# Altium footprint library WE-WPCC.PcbLib: 65 footprints (part 1 of 5)
Each footprint in its own frame and in the unit in brackets; x right, y up, seen from the top. Pads: shape width x height; smd on the part's side, far side on the other; paste and mask are expansions set on the pad; w line width, h text height; cw(c..) or ccw(c..) is an arc to the next point about the centre after c.
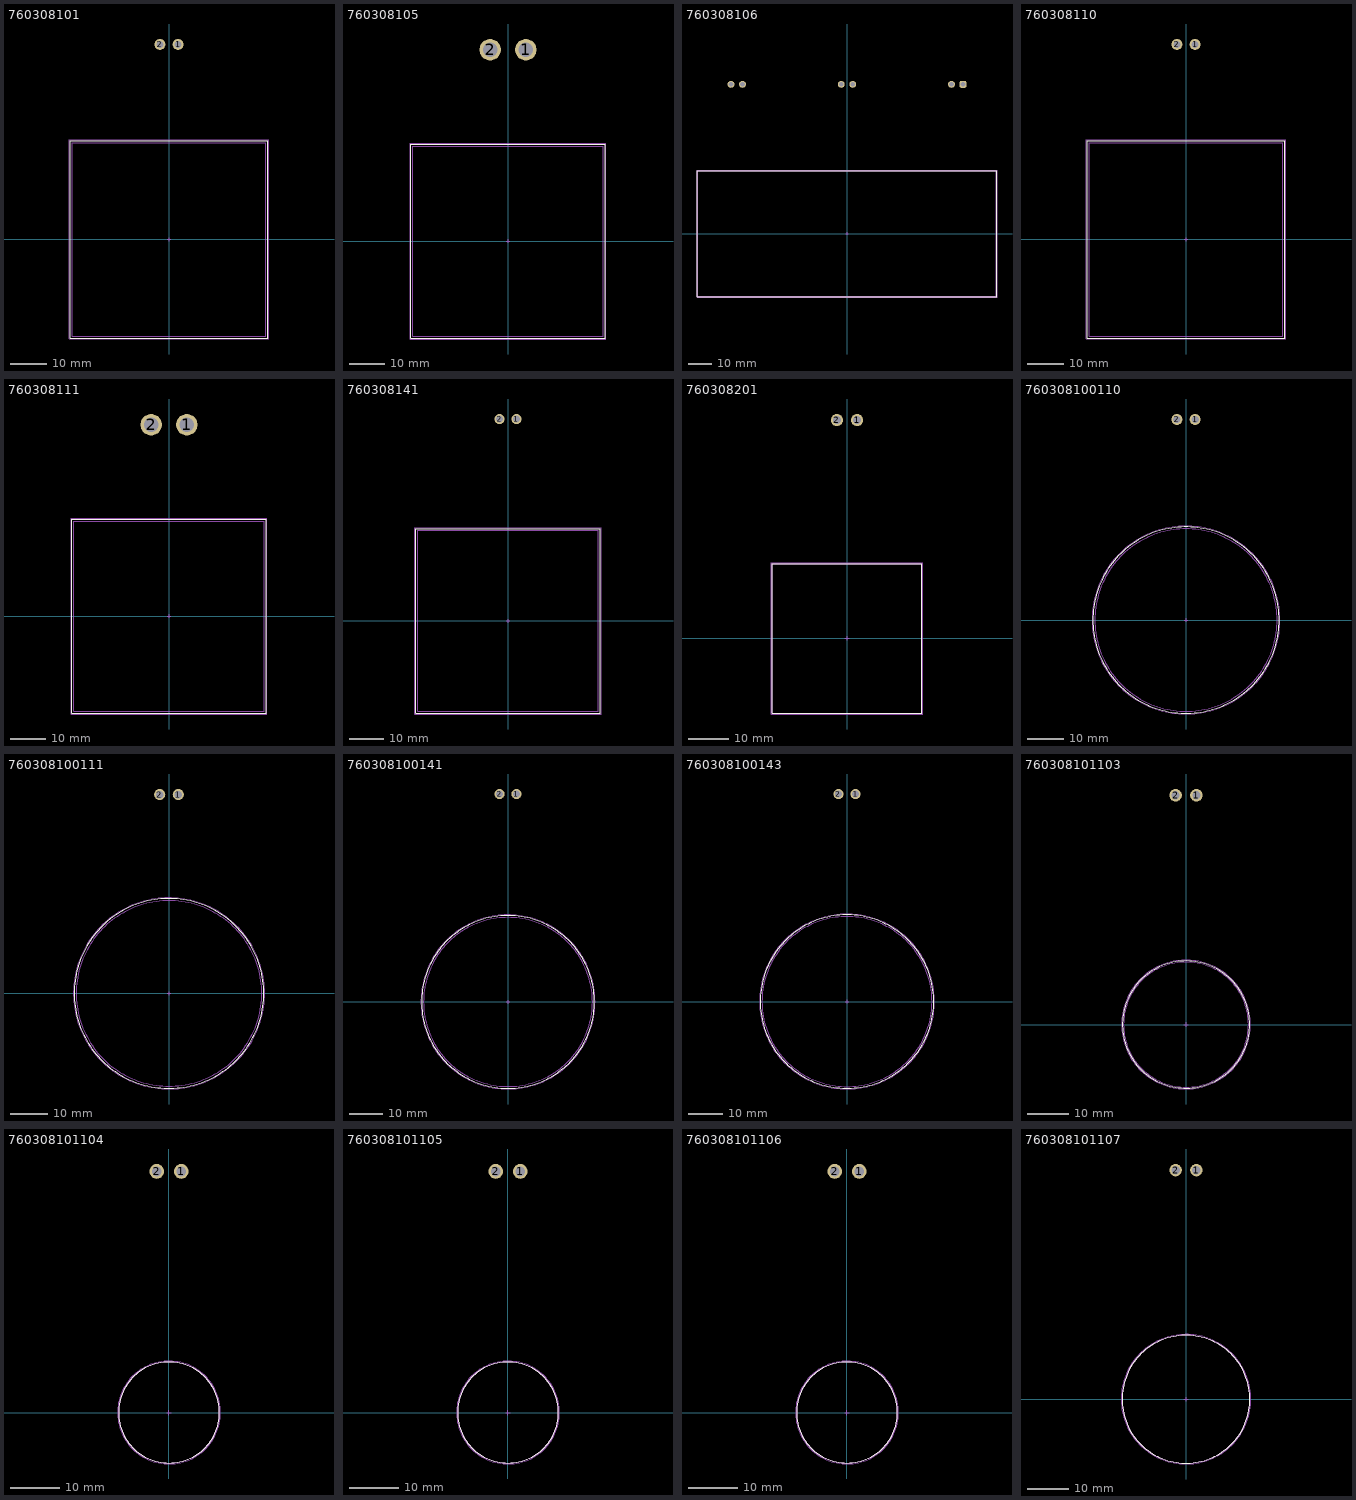
[diagram p0: the footprints below, top view; thin cyan lines are the x and y axes]

## 760308101 [mm] "Wireless Power Transfer Transmitter Coil, body 54.4x54.4mm"
height 6
pads (2):
  round 3 hole 2: 1(2.5,53.65) 2(-2.5,53.65)
Top Overlay:
  lines w0.2: -27.2,-27.2 27.2,-27.2 27.2,27.2 -27.2,27.2 -27.2,-27.2
Assembly Notes:
  text "Pitch 5mm min." at -6,50 h1.22
Top Component Outline:
  lines w0.1: -26.65,-26.65 26.65,-26.65 26.65,26.65 -26.65,26.65 -26.65,-26.65
Top 3D Body:
  lines w0.1: -26.65,-26.65 -26.65,26.65 26.65,26.65 26.65,-26.65 -26.65,-26.65
Top Courtyard:
  lines w0.05: -27.4,-27.4 27.4,-27.4 27.4,27.4 -27.4,27.4 -27.4,-27.4
Top Component Center:
  lines w0.05: -0.5,0 0.5,0 ; 0,-0.5 0,0.5
Top Designator (Mech19):
  text ".Designator" at -7.498,-0.5 h1.5
3D body "760308101_A1.stp": height 5.3, standoff 0.1, extent -26.65,-26.65 26.65,63.65

## 760308105 [mm] "Wireless Power Transfer Transmitter Coil, body 54.4x54.4mm"
height 6
pads (2):
  round 6 hole 4: 1(5,53.65) 2(-5,53.65)
Top Overlay:
  lines w0.2: -27.2,-27.2 -27.2,27.2 27.2,27.2 27.2,-27.2 -27.2,-27.2
Assembly Notes:
  text "Pitch 5mm min." at -6,48 h1.22
Top Component Outline:
  lines w0.1: -26.65,-26.65 -26.65,26.65 26.65,26.65 26.65,-26.65 -26.65,-26.65
Top 3D Body:
  lines w0.1: -26.65,-26.65 26.65,-26.65 26.65,26.65 -26.65,26.65 -26.65,-26.65
Top Courtyard:
  lines w0.05: -27.4,-27.4 -27.4,27.4 27.4,27.4 27.4,-27.4 -27.4,-27.4
Top Component Center:
  lines w0.05: -0.5,0 0.5,0 ; 0,-0.5 0,0.5
Top Designator (Mech19):
  text ".Designator" at -7.498,-0.5 h1.5
3D body "760308105_A5.stp": height 5.05, standoff 0.05, extent -26.65,-26.65 26.65,63.65

## 760308106 [mm] "Wireless Power Array, body 130.2x54.9mm"
height 8
pads (6):
  rrect50% 3x3 hole 2: 1(50.5,65)
  round 3 hole 2: 2(45.5,65) 3(2.5,65) 4(-2.5,65) 5(-45.5,65) 6(-50.5,65)
Top Overlay:
  lines w0.2: -65.1,-27.45 -65.1,27.45 65.1,27.45 65.1,-27.45 -65.1,-27.45
Assembly Notes:
  text "Pitch 5mm min." at 42,62 h1.22
  text "Pitch 5mm min." at -6,62 h1.22
  text "Pitch 5mm min." at -54,62 h1.22
Top Component Outline:
  lines w0.1: -65,-27.35 -65,27.35 65,27.35 65,-27.35 -65,-27.35
Top 3D Body:
  lines w0.1: -65,-27.35 65,-27.35 65,27.35 -65,27.35 -65,-27.35
Top Courtyard:
  lines w0.05: -65.3,-27.65 -65.3,27.65 65.3,27.65 65.3,-27.65 -65.3,-27.65
Top Component Center:
  lines w0.05: -0.5,0 0.5,0 ; 0,-0.5 0,0.5
Top Designator (Mech19):
  text ".Designator" at -7.498,-0.5 h1.5
3D body "760308106 (rev1).stp": height 4.77, standoff 0.05, extent -65,-27.4 65,77.6

## 760308110 [mm] "Wireless Power Transfer Transmitter Coil, body 54.4x54.4mm"
height 6
pads (2):
  round 3 hole 2: 1(2.5,53.65) 2(-2.5,53.65)
Top Overlay:
  lines w0.2: -27.2,-27.2 27.2,-27.2 27.2,27.2 -27.2,27.2 -27.2,-27.2
Assembly Notes:
  text "Pitch 5mm min." at -7,50 h1.22
Top Component Outline:
  lines w0.1: -26.65,-26.65 26.65,-26.65 26.65,26.65 -26.65,26.65 -26.65,-26.65
Top 3D Body:
  lines w0.1: -26.65,-26.65 -26.65,26.65 26.65,26.65 26.65,-26.65 -26.65,-26.65
Top Courtyard:
  lines w0.05: -27.4,-27.4 27.4,-27.4 27.4,27.4 -27.4,27.4 -27.4,-27.4
Top Component Center:
  lines w0.05: -0.5,0 0.5,0 ; 0,-0.5 0,0.5
Top Designator (Mech19):
  text ".Designator" at -7.498,-0.5 h1.5
3D body "760308110 (rev1).stp": height 5.25, standoff 0.05, extent -26.65,-26.65 26.65,63.65

## 760308111 [mm] "Wireless Power Transfer Transmitter Coil, body 54.4x54.4mm"
height 6
pads (2):
  round 6 hole 4: 1(5,53.65) 2(-5,53.65)
Top Overlay:
  lines w0.2: -27.2,-27.2 27.2,-27.2 27.2,27.2 -27.2,27.2 -27.2,-27.2
Assembly Notes:
  text "Pitch 5mm min." at -7,48 h1.22
Top Component Outline:
  lines w0.1: -26.65,-26.65 26.65,-26.65 26.65,26.65 -26.65,26.65 -26.65,-26.65
Top 3D Body:
  lines w0.1: -26.65,-26.65 -26.65,26.65 26.65,26.65 26.65,-26.65 -26.65,-26.65
Top Courtyard:
  lines w0.05: -27.4,-27.4 -27.4,27.4 27.4,27.4 27.4,-27.4 -27.4,-27.4
Top Component Center:
  lines w0.05: -0.5,0 0.5,0 ; 0,-0.5 0,0.5
Top Designator (Mech19):
  text ".Designator" at -7.498,-0.5 h1.5
3D body "760308111 (rev1).stp": height 4.82, standoff 0.05, extent -26.65,-26.65 26.65,63.65

## 760308141 [mm] "Wireless Power Transfer Transmitter Coil, body 54.4x54.4mm"
height 6.5
pads (2):
  round 3 hole 2: 1(2.5,59.45) 2(-2.5,59.45)
Top Overlay:
  lines w0.2: -27.2,-27.2 -27.2,27.2 27.2,27.2 27.2,-27.2 -27.2,-27.2
Assembly Notes:
  text "Pitch 5mm min." at -6,56 h1.22
Top Component Outline:
  lines w0.1: -26.65,-26.65 -26.65,26.65 26.65,26.65 26.65,-26.65 -26.65,-26.65
Top 3D Body:
  lines w0.1: -26.65,-26.65 26.65,-26.65 26.65,26.65 -26.65,26.65 -26.65,-26.65
Top Courtyard:
  lines w0.05: -27.4,-27.4 27.4,-27.4 27.4,27.4 -27.4,27.4 -27.4,-27.4
Top Component Center:
  lines w0.05: -0.5,0 0.5,0 ; 0,-0.5 0,0.5
Top Designator (Mech19):
  text ".Designator" at -7.498,-0.5 h1.5
3D body "760308141_MPA1.stp": height 5.25, standoff 0.05, extent -26.65,-26.65 26.65,69.5

## 760308201 [mm] "Wireless Power Transfer Receiver Coil,  body 37x37mm"
height 1.8
pads (2):
  round 3 hole 2: 1(2.5,54) 2(-2.5,54)
Top Overlay:
  lines w0.2: -18.5,-18.5 -18.5,18.5 18.5,18.5 18.5,-18.5 -18.5,-18.5
Assembly Notes:
  text "Pitch 5mm min." at -6,51 h1.22
Top Component Outline:
  lines w0.1: -18.5,-18.5 -18.5,18.5 18.5,18.5 18.5,-18.5 -18.5,-18.5
Top 3D Body:
  lines w0.1: -18.5,-18.5 18.5,-18.5 18.5,18.5 -18.5,18.5 -18.5,-18.5
Top Courtyard:
  lines w0.05: -18.7,-18.7 18.7,-18.7 18.7,18.7 -18.7,18.7 -18.7,-18.7
Top Component Center:
  lines w0.05: -0.5,0 0.5,0 ; 0,-0.5 0,0.5
Top Designator (Mech19):
  text ".Designator" at -7.498,-0.5 h1.5
3D body "760308201 (rev1).stp": height 2.43, standoff 0.05, extent -17.5,-17.5 17.5,63

## 760308100110 [mm] "Wireless Power Transfer Transmitter Coil, Dia 50mm"
height 6
pads (2):
  round 3 hole 2: 1(2.5,55) 2(-2.5,55)
Top Overlay:
  circle w0.2: c0,0 r25.55
Assembly Notes:
  text "Pitch 5mm min." at -6,51 h1.22
Top Component Outline:
  circle w0.1: c0,0 r25
Top 3D Body:
  circle w0.1: c0,0 r25
Top Courtyard:
  circle w0.05: c0,0 r25.75
Top Component Center:
  lines w0.05: -0.5,0 0.5,0 ; 0,-0.5 0,0.5
Top Designator (Mech19):
  text ".Designator" at -7.498,-0.5 h1.5
3D body "760308100110.stp": height 4.8, standoff 0.1, extent -24.997,-24.998 24.98,63.65

## 760308100111 [mm] "Wireless Power Transfer Transmitter Coil, Dia 50mm"
height 4.7
pads (2):
  round 3 hole 2: 1(2.5,53.58) 2(-2.5,53.58)
Top Overlay:
  circle w0.2: c0,0 r25.55
Assembly Notes:
  text "Pitch 5mm min." at -6.5,50 h1.22
Top Component Outline:
  circle w0.1: c0,0 r25
Top 3D Body:
  circle w0.1: c0,0 r25
Top Courtyard:
  circle w0.05: c0,0 r25.75
Top Component Center:
  lines w0.1: -0.5,0 0.5,0 ; 0,-0.5 0,0.5
Top Designator (Mech19):
  text ".Designator" at -7.498,-0.5 h1.5
3D body "760308100111 (rev1).stp": height 5.47, standoff 0.1, extent -24.991,-24.984 24.98,61.9

## 760308100141 [mm] "Wireless Power Transfer Transmitter Coil, Dia 50mm"
height 6
pads (2):
  round 3 hole 2: 1(2.5,61.5) 2(-2.5,61.5)
Top Overlay:
  circle w0.2: c0,0 r25.55
Assembly Notes:
  text "Pitch 5mm min." at -7,58 h1.22
Top Component Outline:
  circle w0.1: c0,0 r25
Top 3D Body:
  circle w0.1: c0,0 r25
Top Courtyard:
  circle w0.05: c0,0 r25.75
Top Component Center:
  lines w0.05: -0.5,0 0.5,0 ; 0,-0.5 0,0.5
Top Designator (Mech19):
  text ".Designator" at -7.498,-0.5 h1.5
3D body "760308100141.stp": height 4.8, standoff 0.1, extent -24.996,-24.998 24.98,69.5

## 760308100143 [mm] "Wireless Power Transfer Transmitter Coil, Dia 50mm"
height 6.7
pads (2):
  round 3 hole 2: 1(2.5,61) 2(-2.5,61)
Top Overlay:
  circle w0.2: c0,0 r25.5
Assembly Notes:
  text "Pitch 5mm min." at -7,57 h1.22
Top Component Outline:
  circle w0.1: c0,0 r25
Top 3D Body:
  circle w0.1: c0,0 r25
Top Courtyard:
  circle w0.05: c0,0 r25.7
Top Component Center:
  lines w0.05: -0.5,0 0.5,0 ; 0,-0.5 0,0.5
Top Designator (Mech19):
  text ".Designator" at -7.498,-0.5 h1.5
3D body "760308100143.stp": height 5.79, standoff 0.1, extent -25,-24.995 24.98,69.5

## 760308101103 [mm] "Wireless Power Transfer Transmitter Coil, Dia 30mm"
height 1.9
pads (2):
  round 3 hole 2: 1(2.5,55) 2(-2.5,55)
Top Overlay:
  circle w0.2: c0,0 r15.25
Assembly Notes:
  text "Pitch 5mm min." at -7,51 h1.22
Top Component Outline:
  circle w0.1: c0,0 r15
Top 3D Body:
  circle w0.1: c0,0 r15
Top Courtyard:
  circle w0.05: c0,0 r15.45
Top Component Center:
  lines w0.05: -0.5,0 0.5,0 ; 0,-0.5 0,0.5
Top Designator (Mech19):
  text ".Designator" at -7.498,-0.5 h1.5
3D body "760308101103.stp": height 2, standoff 0.1, extent -15,-14.996 15,63.72

## 760308101104 [mm] "Wireless Power Transfer Transmitter Coil, Dia 20mm"
height 2.8
pads (2):
  round 3 hole 2: 1(2.5,49) 2(-2.5,49)
Top Overlay:
  circle w0.2: c0,0 r10.25
Assembly Notes:
  text "Pitch 5mm min." at -7,45 h1.22
Top Component Outline:
  circle w0.1: c0,0 r10.25
Top 3D Body:
  circle w0.1: c0,0 r10.25
Top Courtyard:
  circle w0.05: c0,0 r10.45
Top Component Center:
  lines w0.05: -0.5,0 0.5,0 ; 0,-0.5 0,0.5
Top Designator (Mech19):
  text ".Designator" at -7.498,-0.5 h1.5
3D body "760308101104.stp": height 2.16, standoff 0.1, extent -10.247,-10.25 10.247,59.25

## 760308101105 [mm] "Wireless Power Transfer Transmitter Coil, Dia 20mm"
height 2.8
pads (2):
  round 3 hole 2: 1(2.5,49) 2(-2.5,49)
Top Overlay:
  circle w0.2: c0,0 r10.25
Assembly Notes:
  text "Pitch 5mm min." at -6,45 h1.22
Top Component Outline:
  circle w0.1: c0,0 r10.25
Top 3D Body:
  circle w0.1: c0,0 r10.25
Top Courtyard:
  circle w0.05: c0,0 r10.45
Top Component Center:
  lines w0.05: -0.5,0 0.5,0 ; 0,-0.5 0,0.5
Top Designator (Mech19):
  text ".Designator" at -7.498,-0.5 h1.5
3D body "760308101105.stp": height 2.16, standoff 0.1, extent -10.247,-10.25 10.247,59.25

## 760308101106 [mm] "Wireless Power Transfer Transmitter Coil, body diameter 20mm"
height 2.8
pads (2):
  round 3 hole 2: 1(2.5,49) 2(-2.5,49)
Top Overlay:
  circle w0.2: c0,0 r10.25
Assembly Notes:
  text "Pitch 5mm min." at -6,45 h1.22
Top Component Outline:
  circle w0.1: c0,0 r10.25
Top 3D Body:
  circle w0.1: c0,0 r10.25
Top Courtyard:
  circle w0.05: c0,0 r10.45
Top Component Center:
  lines w0.05: -0.5,0 0.5,0 ; 0,-0.5 0,0.5
Top Designator (Mech19):
  text ".Designator" at -7.498,-0.5 h1.5
3D body "760308101106.stp": height 2.17, standoff 0.1, extent -10.247,-10.25 10.247,59.25

## 760308101107 [mm] "Wireless Power Transfer Transmitter Coil, body diameter 31mm"
height 2.5
pads (2):
  round 3 hole 2: 1(2.5,55.5) 2(-2.5,55.5)
Top Overlay:
  circle w0.2: c0,0 r15.5
Assembly Notes:
  text "Pitch 5mm min." at -6,52 h1.22
Top Component Outline:
  circle w0.1: c0,0 r15.5
Top 3D Body:
  circle w0.1: c0,0 r15.5
Top Courtyard:
  circle w0.05: c0,0 r15.7
Top Component Center:
  lines w0.05: -0.5,0 0.5,0 ; 0,-0.5 0,0.5
Top Designator (Mech19):
  text ".Designator" at -7.498,-0.5 h1.5
3D body "760308101107.stp": height 1.94, standoff 0.1, extent -15.496,-15.5 15.496,65.5